# Altium schematic symbol library TMC2130-TA.SchLib: 1 symbol
Pins are listed as number, name and electrical type; pins without a type are passive.

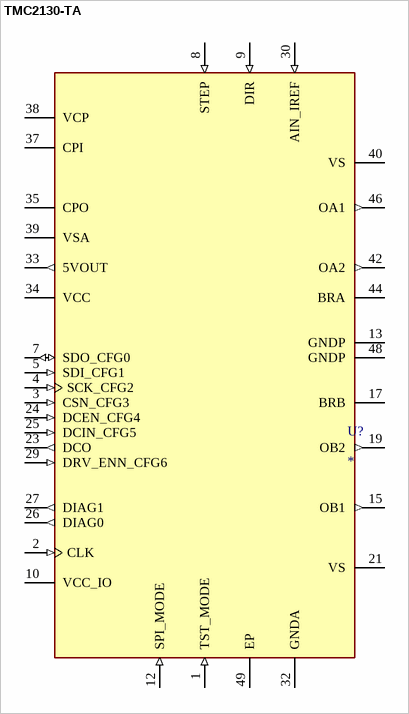
[diagram p0: symbol TMC2130-TA]

## TMC2130-TA
designator U?
Bipolar Motor Driver Power MOSFET SPI, Step/Direction 48-TQFP-EP (7x7); MF: Trinamic Motion; MP: TMC2130-TA; SnapEDA_Link: https://www.snapeda.com/parts/TMC2130-TA/Trinamic/view-part/?ref=snap; Package: None; Value: *; Check_prices: https://www.snapeda.com/parts/TMC2130-TA/Trinamic/view-part/?ref=eda
footprint QFP50P900X900X120-49N
pins: 1 TST_MODE (in), 2 CLK (in), 3 CSN_CFG3 (in), 4 SCK_CFG2 (in), 5 SDI_CFG1 (in), 7 SDO_CFG0 (io), 8 STEP (in), 9 DIR (in), 10 VCC_IO (power), 12 SPI_MODE (in), 13 GNDP (power), 15 OB1 (out), 17 BRB, 19 OB2 (out), 21 VS (power), 23 DCO (out), 24 DCEN_CFG4 (in), 25 DCIN_CFG5 (in), 26 DIAG0 (out), 27 DIAG1 (out), 29 DRV_ENN_CFG6 (in), 30 AIN_IREF (in), 32 GNDA (power), 33 5VOUT (out), 34 VCC (power), 35 CPO, 37 CPI, 38 VCP, 39 VSA (power), 40 VS (power), 42 OA2 (out), 44 BRA, 46 OA1 (out), 48 GNDP (power), 49 EP (power)